# Altium footprint library ECS-400-10-37B2-CKY-TR.PcbLib: 3 footprints
Each footprint in its own frame and in the unit in brackets; x right, y up, seen from the top. Pads: shape width x height; smd on the part's side, far side on the other; paste and mask are expansions set on the pad; w line width, h text height; cw(c..) or ccw(c..) is an arc to the next point about the centre after c.
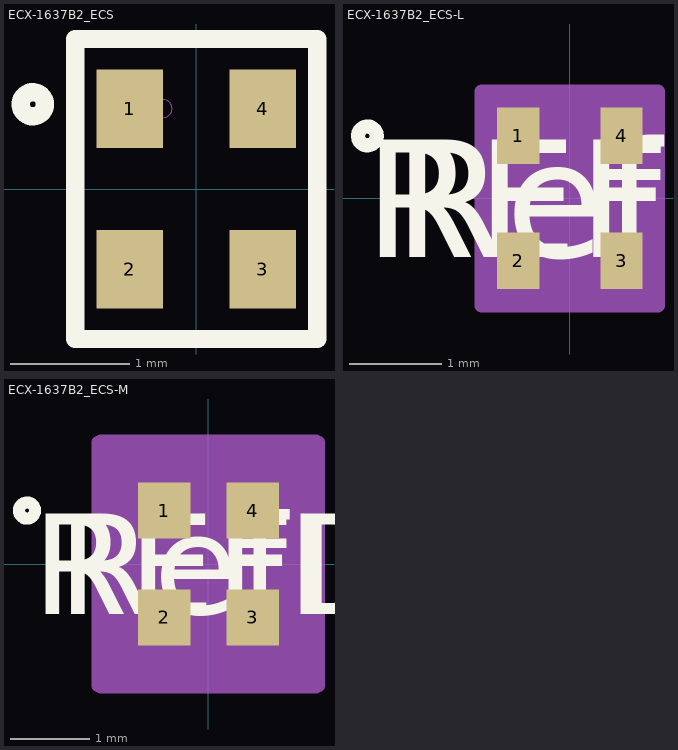
[diagram p0: the footprints below, top view; thin cyan lines are the x and y axes]

## ECX-1637B2_ECS [mil]
pads (4):
  rect 22x26 smd paste+0 mask+0: 1(-22,26.57) 2(-22,-26.57) 3(22,-26.57) 4(22,26.57)
Top Overlay:
  circle w6: c-54,28 r4
  lines w6: -40,-49.57 40,-49.57 40,49.57 -40,49.57 -40,-49.57
Mechanical 13:
  circle w0: c-11,26.57 r3
3D body "ECS-400-10-37B2-CKY-TR.STEP": height 19.68, standoff 0, extent -31.5,-39.37 31.5,39.37

## ECX-1637B2_ECS-L [mil]
pads (4):
  rect 18x24 smd paste+0 mask+0: 1(-22,26.57) 2(-22,-26.57) 3(22,-26.57) 4(22,26.57)
Top Overlay:
  circle w6: c-86.15,26.57 r4
  text "RefDes" at -75,-25 h50
  text "REFDES" at -87.5,-25 h50
Mechanical 13:
  circle w0: c-13,26.57 r3
  lines w0: -12,41.5 ccw(c0,41.5) 12,41.5
  lines w1: -33.5,-41.5 33.5,-41.5 33.5,41.5 -33.5,41.5 -33.5,-41.5
  text "RefDes2" at -87.5,-25 h50
Mechanical 15:
  region: -37.5,-42.57 -37.5,42.57 -37.5,45.5 37.5,45.5 37.5,42.57 37.5,-42.57 37.5,-45.5 -37.5,-45.5
  lines w6: -37.5,-42.57 -37.5,42.57 ; -37.5,-42.57 -37.5,-42.57 ; -37.5,-42.57 -37.5,-45.5 37.5,-45.5 37.5,-42.57 ; -37.5,42.57 -37.5,42.57 ; -37.5,42.57 -37.5,45.5 37.5,45.5 37.5,42.57 ; 37.5,-42.57 37.5,42.57 ; 37.5,-42.57 37.5,-42.57 ; 37.5,42.57 37.5,42.57
3D body "ECX-1637B2_ECS.step": height 20.12, standoff 0, extent -33.5,-41.5 33.5,41.5

## ECX-1637B2_ECS-M [mil]
pads (4):
  rect 26x28 smd paste+0 mask+0: 1(-22,26.57) 2(-22,-26.57) 3(22,-26.57) 4(22,26.57)
Top Overlay:
  circle w6: c-90.15,26.57 r4
  text "RefDes" at -75,-25 h50
  text "REFDES" at -87.5,-25 h50
Mechanical 13:
  circle w0: c-9,26.57 r3
  lines w0: -12,41.5 ccw(c0,41.5) 12,41.5
  lines w1: -33.5,-41.5 33.5,-41.5 33.5,41.5 -33.5,41.5 -33.5,-41.5
  text "RefDes2" at -87.5,-25 h50
Mechanical 15:
  region: -53.5,-60.57 -55,-60.57 -55,60.57 -53.5,60.57 -53.5,61.5 53.5,61.5 53.5,60.57 55,60.57 55,-60.57 53.5,-60.57 53.5,-61.5 -53.5,-61.5
  lines w6: -55,-60.57 -55,60.57 -53.5,60.57 -53.5,61.5 53.5,61.5 53.5,60.57 55,60.57 55,-60.57 53.5,-60.57 53.5,-61.5 -53.5,-61.5 -53.5,-60.57 -55,-60.57
3D body "ECX-1637B2_ECS.step": height 20.12, standoff 0, extent -33.5,-41.5 33.5,41.5